# EAGLE library part 74HC165BQ (library FarnellThings)
8-bit parallel-in/serial out shift register,QFN-16
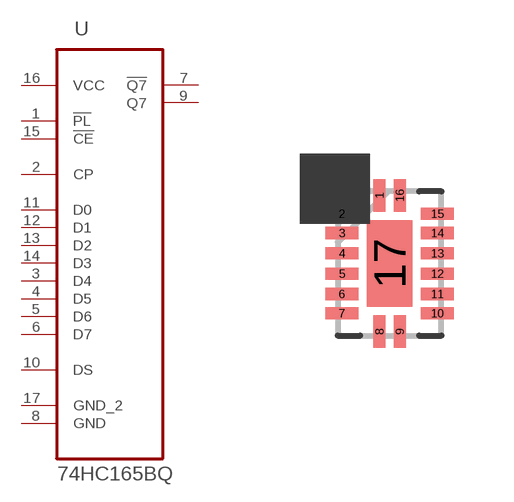
[diagram p0: symbol with the pads of QFN50P250X350X100-17N; footprint QFN50P250X350X100-17N]

Designator prefix U

## 74HC165BQ (MPN: 74HC165BQ; OC_FARNELL: 2164749; OC_NEWARK: 55W4684; PACKAGE: QFN-16; SUPPLIER: NXP)  [QFN50P250X350X100-17N]
1  !PL  in
2  CP  in
3  D4  in
4  D5  in
5  D6  in
6  D7  in
7  !Q7  out
8  GND  pas
9  Q7  out
10  DS  in
11  D0  in
12  D1  in
13  D2  in
14  D3  in
15  !CE  in
16  VCC  pwr
17  GND_2  pas

## Footprint QFN50P250X350X100-17N (pad centres in mm)
smd 0.305 x 0.813: 1 -0.254,1.702; 8 -0.254,-1.702; 9 0.254,-1.702; 16 0.254,1.702
smd 0.813 x 0.305: 2 -1.194,1.245; 3 -1.194,0.762; 4 -1.194,0.254; 5 -1.194,-0.254; 6 -1.194,-0.762; 7 -1.194,-1.245; 10 1.194,-1.245; 11 1.194,-0.762; 12 1.194,-0.254; 13 1.194,0.254; 14 1.194,0.762; 15 1.194,1.245
smd 1.143 x 2.159: 17 0,0